# Altium footprint library Flex_L_1206(3216).PcbLib: 1 footprints
Each footprint in its own frame and in the unit in brackets; x right, y up, seen from the top. Pads: shape width x height; smd on the part's side, far side on the other; paste and mask are expansions set on the pad; w line width, h text height; cw(c..) or ccw(c..) is an arc to the next point about the centre after c.
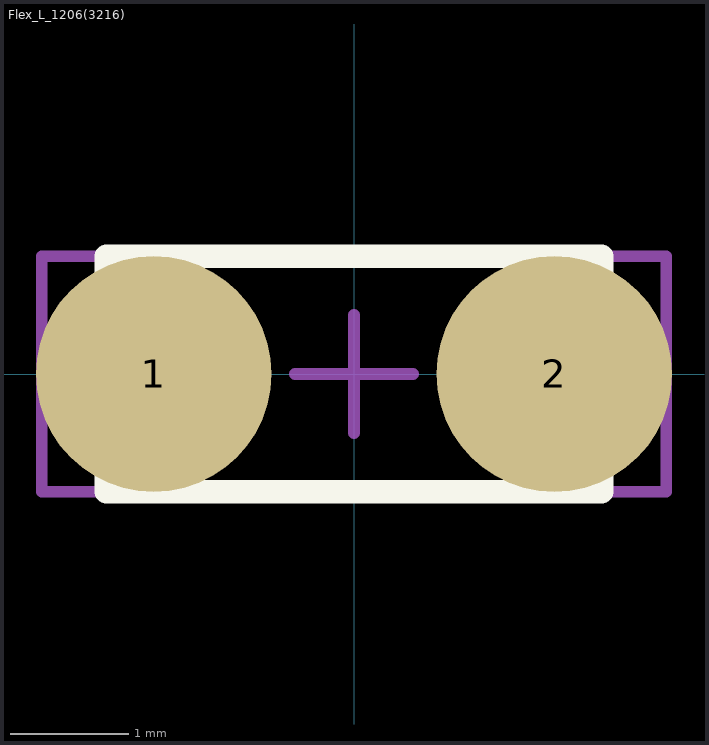
[diagram p0: the footprint, top view; thin cyan lines are the x and y axes]

## Flex_L_1206(3216) [mm] "Chip Inductor, Body 3.2x1.6mm, IPC High Density, Flex"
height 1.9
pads (2):
  round 2 smd paste-0.2 mask-0.102: 1(-1.7,0) 2(1.7,0)
Top Overlay:
  lines w0.2: -2.1,-1 2.1,-1 2.1,1 -2.1,1 -2.1,-1
Mechanical 13:
  lines w0.1: -1.75,-0.95 1.75,-0.95 1.75,0.95 -1.75,0.95 -1.75,-0.95
Mechanical 15:
  lines w0.1: -0.5,0 0.5,0 ; 0,-0.5 0,0.5 ; -2.65,-1 -2.65,1 2.65,1 2.65,-1 -2.65,-1 ; -2.1,-1 2.1,-1 2.1,1 -2.1,1 -2.1,-1
3D body: height 1.27, standoff 0, extent -1.75,-0.95 1.75,0.95